# EAGLE library part LT3042 (library 25cmsquare)
LT3042 20V, 200mA, Ultralow Noise, Ultrahigh PSRR RF Linear Regulator
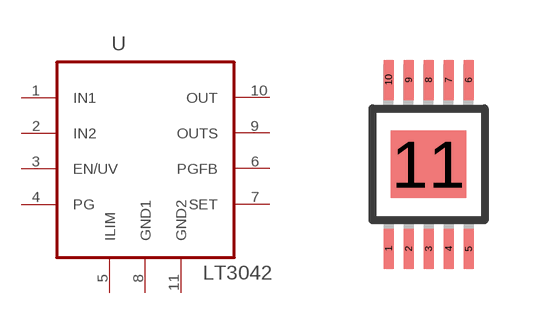
[diagram p7: symbol with the pads of MSOP10-EPAD; footprint MSOP10-EPAD]

Designator prefix -

## LT3042EMSE  [MSOP10-EPAD]
1  IN1  pwr
2  IN2  pwr
3  EN/UV  in
4  PG  out
5  ILIM  pas
6  PGFB  in
7  SET  in
8  GND1  pwr
9  OUTS  in
10  OUT  pwr
11  GND2  pwr

## Footprint MSOP10-EPAD (pad centres in mm)
smd 0.25 x 1: 1 -1,-2.113; 2 -0.5,-2.113; 3 0,-2.113; 4 0.5,-2.113; 5 1,-2.113; 6 1,2.113; 7 0.5,2.113; 8 0,2.113; 9 -0.5,2.113; 10 -1,2.113
smd 1.88 x 1.68: 11 0,0